# EAGLE library part OLIMEX_RP2350-PICO2-XXL (library 07-Retrocomputing)
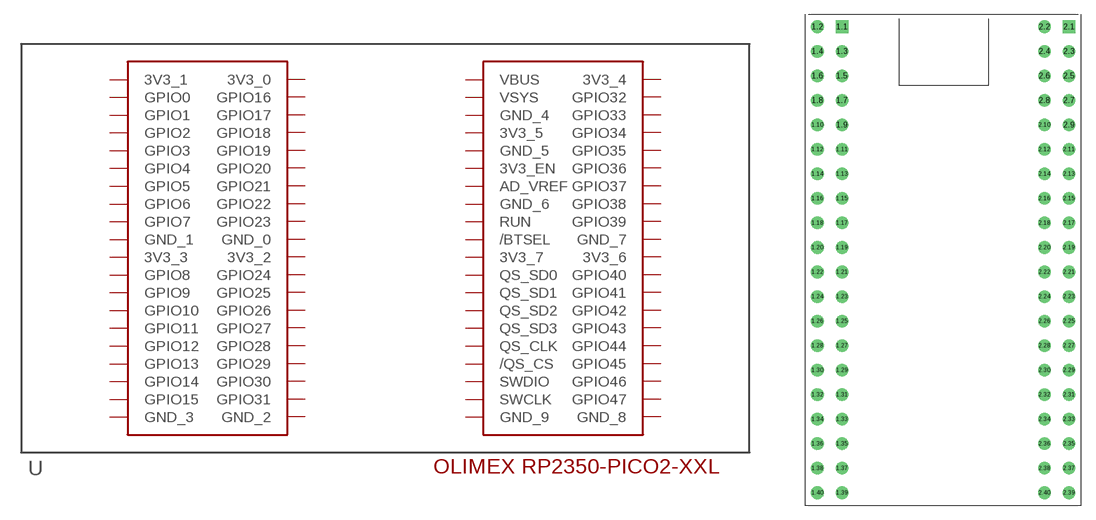
[diagram p38: symbol with the pads of OLIMEX_RP2350-PICO2-XXL; footprint OLIMEX_RP2350-PICO2-XXL]

Designator prefix U

## OLIMEX_RP2350-PICO2-XXL  [OLIMEX_RP2350-PICO2-XXL]
1.1  3V3_0
1.2  3V3_1
1.3  GPIO16
1.4  GPIO0
1.5  GPIO17
1.6  GPIO1
1.7  GPIO18
1.8  GPIO2
1.9  GPIO19
1.10  GPIO3
1.11  GPIO20
1.12  GPIO4
1.13  GPIO21
1.14  GPIO5
1.15  GPIO22
1.16  GPIO6
1.17  GPIO23
1.18  GPIO7
1.19  GND_0
1.20  GND_1
1.21  3V3_2
1.22  3V3_3
1.23  GPIO24
1.24  GPIO8
1.25  GPIO25
1.26  GPIO9
1.27  GPIO26
1.28  GPIO10
1.29  GPIO27
1.30  GPIO11
1.31  GPIO28
1.32  GPIO12
1.33  GPIO29
1.34  GPIO13
1.35  GPIO30
1.36  GPIO14
1.37  GPIO31
1.38  GPIO15
1.39  GND_2
1.40  GND_3
2.1  3V3_4
2.2  VBUS
2.3  GPIO32
2.4  VSYS
2.5  GPIO33
2.6  GND_4
2.7  GPIO34
2.8  3V3_5
2.9  GPIO35
2.10  GND_5
2.11  GPIO36
2.12  3V3_EN
2.13  GPIO37
2.14  AD_VREF
2.15  GPIO38
2.16  GND_6
2.17  GPIO39
2.18  RUN
2.19  GND_7
2.20  /BTSEL
2.21  3V3_6
2.22  3V3_7
2.23  GPIO40
2.24  QS_SD0
2.25  GPIO41
2.26  QS_SD1
2.27  GPIO42
2.28  QS_SD2
2.29  GPIO43
2.30  QS_SD3
2.31  GPIO44
2.32  QS_CLK
2.33  GPIO45
2.34  /QS_CS
2.35  GPIO46
2.36  SWDIO
2.37  GPIO47
2.38  SWCLK
2.39  GND_8
2.40  GND_9

## Footprint OLIMEX_RP2350-PICO2-XXL (pad centres in mm)
drill 0.8 square: 1.1 -10.5,0; 2.1 12.995,0
drill 0.8 round: 1.2 -13.04,0; 1.3 -10.5,-2.54; 1.4 -13.04,-2.54; 1.5 -10.5,-5.08; 1.6 -13.04,-5.08; 1.7 -10.5,-7.62; 1.8 -13.04,-7.62; 1.9 -10.5,-10.16; 1.10 -13.04,-10.16; 1.11 -10.5,-12.7; 1.12 -13.04,-12.7; 1.13 -10.5,-15.24; 1.14 -13.04,-15.24; 1.15 -10.5,-17.78; 1.16 -13.04,-17.78; 1.17 -10.5,-20.32; 1.18 -13.04,-20.32; 1.19 -10.5,-22.86; 1.20 -13.04,-22.86; 1.21 -10.5,-25.4; 1.22 -13.04,-25.4; 1.23 -10.5,-27.94; 1.24 -13.04,-27.94; 1.25 -10.5,-30.48; 1.26 -13.04,-30.48; 1.27 -10.5,-33.02; 1.28 -13.04,-33.02; 1.29 -10.5,-35.56; 1.30 -13.04,-35.56; 1.31 -10.5,-38.1; 1.32 -13.04,-38.1; 1.33 -10.5,-40.64; 1.34 -13.04,-40.64; 1.35 -10.5,-43.18; 1.36 -13.04,-43.18; 1.37 -10.5,-45.72; 1.38 -13.04,-45.72; 1.39 -10.5,-48.26; 1.40 -13.04,-48.26; 2.2 10.455,0; 2.3 12.995,-2.54; 2.4 10.455,-2.54; 2.5 12.995,-5.08; 2.6 10.455,-5.08; 2.7 12.995,-7.62; 2.8 10.455,-7.62; 2.9 12.995,-10.16; 2.10 10.455,-10.16; 2.11 12.995,-12.7; 2.12 10.455,-12.7; 2.13 12.995,-15.24; 2.14 10.455,-15.24; 2.15 12.995,-17.78; 2.16 10.455,-17.78; 2.17 12.995,-20.32; 2.18 10.455,-20.32; 2.19 12.995,-22.86; 2.20 10.455,-22.86; 2.21 12.995,-25.4; 2.22 10.455,-25.4; 2.23 12.995,-27.94; 2.24 10.455,-27.94; 2.25 12.995,-30.48; 2.26 10.455,-30.48; 2.27 12.995,-33.02; 2.28 10.455,-33.02; 2.29 12.995,-35.56; 2.30 10.455,-35.56; 2.31 12.995,-38.1; 2.32 10.455,-38.1; 2.33 12.995,-40.64; 2.34 10.455,-40.64; 2.35 12.995,-43.18; 2.36 10.455,-43.18; 2.37 12.995,-45.72; 2.38 10.455,-45.72; 2.39 12.995,-48.26; 2.40 10.455,-48.26